# EAGLE library part DG2204R-5.0-8 (library expansion)
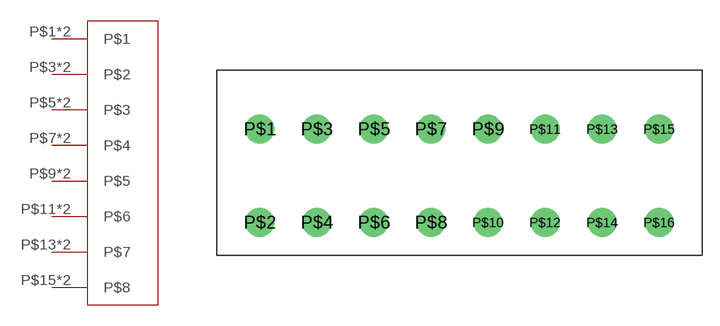
[diagram p0: symbol with the pads of DG2204R-8; footprint DG2204R-8]

Designator prefix -

## DG2204R-5.0-8DG2204-8  [DG2204R-8]
P$1  P$1
P$2  P$1
P$3  P$2
P$4  P$2
P$5  P$3
P$6  P$3
P$7  P$4
P$8  P$4
P$9  P$5
P$10  P$5
P$11  P$6
P$12  P$6
P$13  P$7
P$14  P$7
P$15  P$8
P$16  P$8

## Footprint DG2204R-8 (pad centres in mm)
drill 1.4 pad 2.54: P$1 -15,4.1; P$2 -15,-4.1; P$3 -10,4.1; P$4 -10,-4.1; P$5 -5,4.1; P$6 -5,-4.1; P$7 0,4.1; P$8 0,-4.1; P$9 5,4.1; P$10 5,-4.1; P$11 10,4.1; P$12 10,-4.1; P$13 15,4.1; P$14 15,-4.1; P$15 20,4.1; P$16 20,-4.1